# Altium footprint library PAM8406DR.PcbLib: 3 footprints
Each footprint in its own frame and in the unit in brackets; x right, y up, seen from the top. Pads: shape width x height; smd on the part's side, far side on the other; paste and mask are expansions set on the pad; w line width, h text height; cw(c..) or ccw(c..) is an arc to the next point about the centre after c.
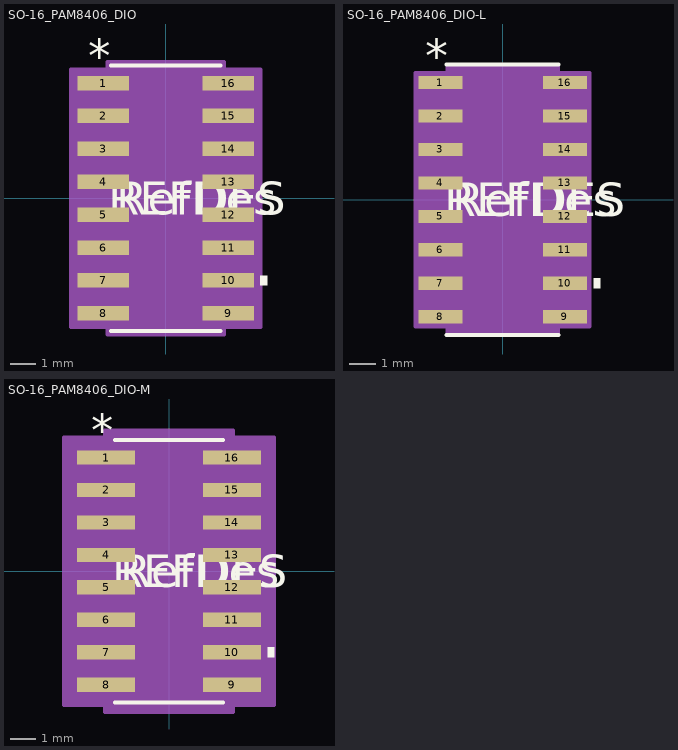
[diagram p0: the footprints below, top view; thin cyan lines are the x and y axes]

## SO-16_PAM8406_DIO [mil]
pads (16):
  rect 78x22 smd paste+0 mask+0: 1(-95,175) 2(-95,125) 3(-95,75) 4(-95,25) 5(-95,-25) 6(-95,-75) 7(-95,-125) 8(-95,-175) 9(95,-175) 10(95,-125) 11(95,-75) 12(95,-25) 13(95,25) 14(95,75) 15(95,125) 16(95,175)
Top Overlay:
  region: 144,-117.5 154,-117.5 154,-132.5 144,-132.5
  lines w6: -83.5,-202 83.5,-202 ; -83.5,202 83.5,202
  text "REFDES" at -87.5,-25 h50
  text "*" at -117.5,192 h50
  text "RefDes" at -75,-25 h50
Mechanical 13:
  lines w0: -12,197 ccw(c0,197) 12,197
  lines w1: -120,-185 -120,-165 -78.5,-165 -78.5,-185 -120,-185 ; -120,-135 -120,-115 -78.5,-115 -78.5,-135 -120,-135 ; -120,-85 -120,-65 -78.5,-65 -78.5,-85 -120,-85 ; -120,-35 -120,-15 -78.5,-15 -78.5,-35 -120,-35 ; -120,15 -120,35 -78.5,35 -78.5,15 -120,15 ; -120,65 -120,85 -78.5,85 -78.5,65 -120,65 ; -120,115 -120,135 -78.5,135 -78.5,115 -120,115 ; -120,165 -120,185 -78.5,185 -78.5,165 -120,165 ; -78.5,-197 78.5,-197 78.5,197 -78.5,197 -78.5,-197 ; 78.5,-185 78.5,-165 120,-165 120,-185 78.5,-185 ; 78.5,-135 78.5,-115 120,-115 120,-135 78.5,-135 ; 78.5,-85 78.5,-65 120,-65 120,-85 78.5,-85 ; 78.5,-35 78.5,-15 120,-15 120,-35 78.5,-35 ; 78.5,15 78.5,35 120,35 120,15 78.5,15 ; 78.5,65 78.5,85 120,85 120,65 78.5,65 ; 78.5,115 78.5,135 120,135 120,115 78.5,115 ; 78.5,165 78.5,185 120,185 120,165 78.5,165
  text "*" at -76,144 h50
  text "RefDes2" at -87.5,-25 h50
Mechanical 15:
  region: -88.5,-196 -144,-196 -144,196 -88.5,196 -88.5,207 88.5,207 88.5,196 144,196 144,-196 88.5,-196 88.5,-207 -88.5,-207
  lines w6: -144,-196 -144,196 -88.5,196 -88.5,207 88.5,207 88.5,196 144,196 144,-196 88.5,-196 88.5,-207 -88.5,-207 -88.5,-196 -144,-196
3D body "SO-16_PAM8406_DIO.step": height 50.12, standoff 0, extent -120,-197.01 120,197.01

## SO-16_PAM8406_DIO-L [mil]
pads (16):
  rect 66x20 smd paste+0 mask+0: 1(-93,175) 2(-93,125) 3(-93,75) 4(-93,25) 5(-93,-25) 6(-93,-75) 7(-93,-125) 8(-93,-175) 9(93,-175) 10(93,-125) 11(93,-75) 12(93,-25) 13(93,25) 14(93,75) 15(93,125) 16(93,175)
Top Overlay:
  region: 136,-117.5 146,-117.5 146,-132.5 136,-132.5
  lines w6: -83.5,-202 83.5,-202 ; -83.5,202 83.5,202
  text "REFDES" at -87.5,-25 h50
  text "*" at -115.5,190 h50
  text "RefDes" at -75,-25 h50
Mechanical 13:
  lines w0: -12,197 ccw(c0,197) 12,197
  lines w1: -120,-185 -120,-165 -78.5,-165 -78.5,-185 -120,-185 ; -120,-135 -120,-115 -78.5,-115 -78.5,-135 -120,-135 ; -120,-85 -120,-65 -78.5,-65 -78.5,-85 -120,-85 ; -120,-35 -120,-15 -78.5,-15 -78.5,-35 -120,-35 ; -120,15 -120,35 -78.5,35 -78.5,15 -120,15 ; -120,65 -120,85 -78.5,85 -78.5,65 -120,65 ; -120,115 -120,135 -78.5,135 -78.5,115 -120,115 ; -120,165 -120,185 -78.5,185 -78.5,165 -120,165 ; -78.5,-197 78.5,-197 78.5,197 -78.5,197 -78.5,-197 ; 78.5,-185 78.5,-165 120,-165 120,-185 78.5,-185 ; 78.5,-135 78.5,-115 120,-115 120,-135 78.5,-135 ; 78.5,-85 78.5,-65 120,-65 120,-85 78.5,-85 ; 78.5,-35 78.5,-15 120,-15 120,-35 78.5,-35 ; 78.5,15 78.5,35 120,35 120,15 78.5,15 ; 78.5,65 78.5,85 120,85 120,65 78.5,65 ; 78.5,115 78.5,135 120,135 120,115 78.5,115 ; 78.5,165 78.5,185 120,185 120,165 78.5,165
  text "*" at -76,144 h50
  text "RefDes2" at -87.5,-25 h50
Mechanical 15:
  region: -82.5,-189 -130,-189 -130,189 -82.5,189 -82.5,201 82.5,201 82.5,189 130,189 130,-189 82.5,-189 82.5,-201 -82.5,-201
  lines w6: -130,-189 -130,189 -82.5,189 -82.5,201 82.5,201 82.5,189 130,189 130,-189 82.5,-189 82.5,-201 -82.5,-201 -82.5,-189 -130,-189
3D body "SO-16_PAM8406_DIO.step": height 50.12, standoff 0, extent -120,-197.01 120,197.01

## SO-16_PAM8406_DIO-M [mil]
pads (16):
  rect 90x22 smd paste+0 mask+0: 1(-97,175) 2(-97,125) 3(-97,75) 4(-97,25) 5(-97,-25) 6(-97,-75) 7(-97,-125) 8(-97,-175) 9(97,-175) 10(97,-125) 11(97,-75) 12(97,-25) 13(97,25) 14(97,75) 15(97,125) 16(97,175)
Top Overlay:
  region: 152,-117.5 162,-117.5 162,-132.5 152,-132.5
  lines w6: -83.5,-202 83.5,-202 ; -83.5,202 83.5,202
  text "REFDES" at -87.5,-25 h50
  text "*" at -119.5,192 h50
  text "RefDes" at -75,-25 h50
Mechanical 13:
  lines w0: -12,197 ccw(c0,197) 12,197
  lines w1: -120,-185 -120,-165 -78.5,-165 -78.5,-185 -120,-185 ; -120,-135 -120,-115 -78.5,-115 -78.5,-135 -120,-135 ; -120,-85 -120,-65 -78.5,-65 -78.5,-85 -120,-85 ; -120,-35 -120,-15 -78.5,-15 -78.5,-35 -120,-35 ; -120,15 -120,35 -78.5,35 -78.5,15 -120,15 ; -120,65 -120,85 -78.5,85 -78.5,65 -120,65 ; -120,115 -120,135 -78.5,135 -78.5,115 -120,115 ; -120,165 -120,185 -78.5,185 -78.5,165 -120,165 ; -78.5,-197 78.5,-197 78.5,197 -78.5,197 -78.5,-197 ; 78.5,-185 78.5,-165 120,-165 120,-185 78.5,-185 ; 78.5,-135 78.5,-115 120,-115 120,-135 78.5,-135 ; 78.5,-85 78.5,-65 120,-65 120,-85 78.5,-85 ; 78.5,-35 78.5,-15 120,-15 120,-35 78.5,-35 ; 78.5,15 78.5,35 120,35 120,15 78.5,15 ; 78.5,65 78.5,85 120,85 120,65 78.5,65 ; 78.5,115 78.5,135 120,135 120,115 78.5,115 ; 78.5,165 78.5,185 120,185 120,165 78.5,165
  text "*" at -76,144 h50
  text "RefDes2" at -87.5,-25 h50
Mechanical 15:
  region: -98.5,-206 -162,-206 -162,206 -98.5,206 -98.5,217 98.5,217 98.5,206 162,206 162,-206 98.5,-206 98.5,-217 -98.5,-217
  lines w6: -162,-206 -162,206 -98.5,206 -98.5,217 98.5,217 98.5,206 162,206 162,-206 98.5,-206 98.5,-217 -98.5,-217 -98.5,-206 -162,-206
3D body "SO-16_PAM8406_DIO.step": height 50.12, standoff 0, extent -120,-197.01 120,197.01